# Altium footprint library ETech PCB Rev 1.0.PcbLib: 102 footprints (part 6 of 7)
Each footprint in its own frame and in the unit in brackets; x right, y up, seen from the top. Pads: shape width x height; smd on the part's side, far side on the other; paste and mask are expansions set on the pad; w line width, h text height; cw(c..) or ccw(c..) is an arc to the next point about the centre after c.
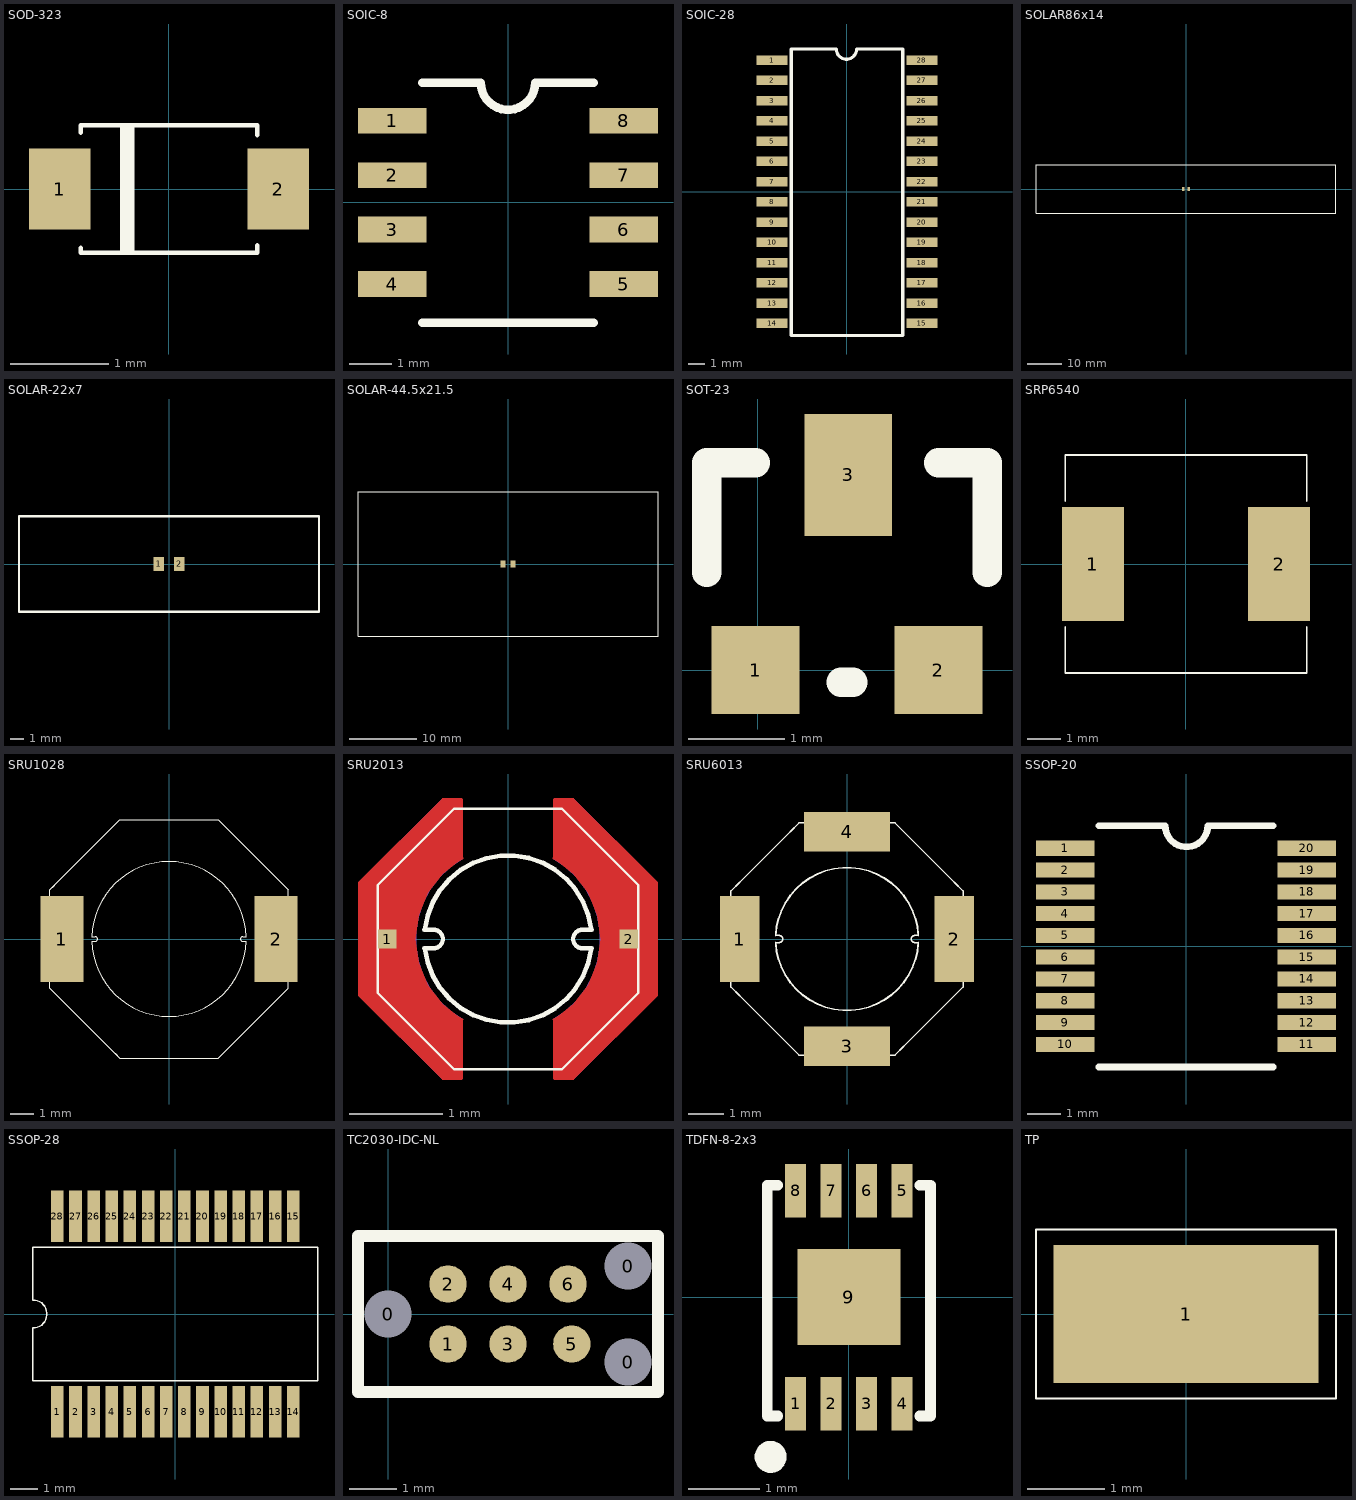
[diagram p5: the footprints below, top view; thin cyan lines are the x and y axes]

## SOD-323 [mm]
height 2.1
pads (2):
  rect 0.63x0.83 smd: 1(-1.115,0) 2(1.115,0)
Top Overlay:
  rectangle: -0.5,-0.65 -0.35,0.65
  lines w0.05: -0.9,-0.6 -0.9,-0.65 0.625,-0.65 0.9,-0.65 0.9,-0.575 ; -0.9,0.575 -0.9,0.65 0.025,0.65 0.9,0.65 0.9,0.55

## SOIC-8 [mm]
height 1.1
pads (8):
  rect 1.6x0.6 smd: 1(-2.7,1.905) 2(-2.7,0.635) 3(-2.7,-0.635) 4(-2.7,-1.905) 5(2.7,-1.905) 6(2.7,-0.635) 7(2.7,0.635) 8(2.7,1.905)
Top Overlay:
  lines w0.2: -2,-2.805 2,-2.805 ; -2,2.795 -0.635,2.795 ccw(c0,2.795) 0.635,2.795 2,2.795

## SOIC-28 [mm]
height 1.1
pads (28):
  rect 1.95x0.6 smd: 1(-4.7,8.255) 2(-4.7,6.985) 3(-4.7,5.715) 4(-4.7,4.445) 5(-4.7,3.175) 6(-4.7,1.905) 7(-4.7,0.635) 8(-4.7,-0.635) 9(-4.7,-1.905) 10(-4.7,-3.175) 11(-4.7,-4.445) 12(-4.7,-5.715) 13(-4.7,-6.985) 14(-4.7,-8.255) 15(4.7,-8.255) 16(4.7,-6.985) 17(4.7,-5.715) 18(4.7,-4.445) 19(4.7,-3.175) 20(4.7,-1.905) 21(4.7,-0.635) 22(4.7,0.635) 23(4.7,1.905) 24(4.7,3.175) 25(4.7,4.445) 26(4.7,5.715) 27(4.7,6.985) 28(4.7,8.255)
Top Overlay:
  lines w0.2: -3.5,-9.02 -3.5,8.94 -0.67,8.94 ccw(c-0.035,8.94) 0.6,8.94 3.5,8.94 3.5,-9.02 -3.5,-9.02

## SOLAR86x14 [mil]
height 751.97
pads (2):
  rect 30x40 smd: 1(-30,0) 2(30,0)
Top Overlay:
  lines w6: -1692.91,-275.59 -1692.91,275.59 1692.91,275.59 1692.91,-275.59 -1692.91,-275.59

## SOLAR-22x7 [mil]
height 751.97
pads (2):
  rect 30x40 smd: 1(-30,0) 2(30,0)
Top Overlay:
  lines w6: -433.07,-137.8 433.07,-137.8 433.07,137.8 -433.07,137.8 -433.07,-137.8

## SOLAR-44.5x21.5 [mil]
height 751.97
pads (2):
  rect 30x40 smd: 1(-30,0) 2(30,0)
Top Overlay:
  lines w6: -875.98,-421.26 875.98,-421.26 875.98,421.26 -875.98,421.26 -875.98,-421.26

## SOT-23 [mil]
height 751.97
pads (3):
  rect 36x36 smd: 1(-1,0) 2(74,0)
  rect 36x50 smd: 3(37,80)
Top Overlay:
  lines w12: -21,40 -21,85 -1,85 ; 34,-5 39,-5 ; 74,85 94,85 94,40

## SRP6540 [mm]
height 19.1
pads (2):
  rect 1.85x3.4 smd: 1(-2.775,0) 2(2.775,0)
Top Overlay:
  lines w0.05: -3.6,-1.875 -3.6,-3.25 3.6,-3.25 3.6,-1.875 ; -3.6,1.875 -3.6,3.25 3.6,3.25 3.6,1.875

## SRU1028 [mm]
height 19.1
pads (2):
  rect 1.8x3.6 smd: 1(-4.5,0) 2(4.5,0)
Top Overlay:
  lines w0.045: -5,-1.93 -5,-2.071 ; -4.808,2.263 -5,2.071 ; -3.248,-0.1 -3.1,-0.1 ccw(c-3.1,0) -3.1,0.1 -3.248,0.1 ; -2.263,-4.808 -2.071,-5 ; -1.93,5 -2.071,5 ; 2.192,4.879 2.071,5 ; 2.333,-4.738 2.071,-5 ; 3.248,-0.1 3.1,-0.1 cw(c3.1,0) 3.1,0.1 3.248,0.1 ; 4.738,-2.333 5,-2.071 ; 5,1.788 5,2.071 ; -5,-2.071 -2.071,-5 ; -5,-2.071 -5,2.071 ; -5,2.071 -2.071,5 ; -2.071,-5 2.071,-5 ; -2.071,5 2.071,5 ; 2.071,-5 5,-2.071 ; 2.071,5 5,2.071 ; 5,-2.071 5,2.071
  lines w0.05: -3.248,-0.102 ccw(c0,0) 3.248,-0.102 ; -3.248,0.102 cw(c0,0) 3.248,0.102

## SRU2013 [mm]
height 19.1
pads (2):
  rect 0.2x0.2 smd: 1(-1.3,0) 2(1.3,0)
Top Layer:
  region: 1.609,-0.609 1.611,-0.607 1.613,-0.603 1.613,-0.6 1.613,0.6 1.613,0.605 1.609,0.609 0.709,1.509 0.707,1.511 0.703,1.513 0.7,1.513 0.5,1.513 0.497,1.513 0.49,1.51 0.487,1.503 0.487,1.5 0.487,0.877 0.484,0.873 0.484,0.868 0.484,0.865 0.487,0.859 0.49,0.857 0.547,0.824 0.704,0.704 0.862,0.498 0.962,0.258 0.996,0 0.962,-0.258 0.862,-0.498 0.704,-0.704 0.547,-0.824 0.49,-0.857 0.487,-0.859 0.484,-0.865 0.484,-0.868 0.484,-0.871 0.485,-0.875 0.487,-0.877 0.487,-1.5 0.487,-1.503 0.49,-1.51 0.497,-1.513 0.5,-1.513 0.7,-1.513 0.703,-1.513 0.707,-1.511 0.709,-1.509
  region: -1.609,-0.609 -1.611,-0.607 -1.613,-0.603 -1.613,-0.6 -1.613,0.6 -1.613,0.605 -1.609,0.609 -0.709,1.509 -0.707,1.511 -0.703,1.513 -0.7,1.513 -0.5,1.513 -0.497,1.513 -0.49,1.51 -0.487,1.503 -0.487,1.5 -0.487,0.877 -0.484,0.873 -0.484,0.868 -0.484,0.865 -0.487,0.859 -0.49,0.857 -0.547,0.824 -0.704,0.704 -0.862,0.498 -0.962,0.258 -0.996,0 -0.962,-0.258 -0.862,-0.498 -0.704,-0.704 -0.547,-0.824 -0.49,-0.857 -0.487,-0.859 -0.484,-0.865 -0.484,-0.868 -0.484,-0.871 -0.485,-0.875 -0.487,-0.877 -0.487,-1.5 -0.487,-1.503 -0.49,-1.51 -0.497,-1.513 -0.5,-1.513 -0.7,-1.513 -0.703,-1.513 -0.707,-1.511 -0.709,-1.509
Top Overlay:
  lines w0.025: -0.566,1.4 0.58,1.4 1.4,0.58 1.4,-0.58 0.58,-1.4 0.566,-1.4 -0.58,-1.4 -1.4,-0.58 -1.4,0.58 -0.58,1.4 -0.3,1.4
  lines w0.045: -0.9,-0.1 -0.8,-0.1 ccw(c-0.8,0) -0.8,0.1 -0.9,0.1 ; 0.9,-0.1 0.8,-0.1 cw(c0.8,0) 0.8,0.1 0.9,0.1
  lines w0.05: -0.894,-0.099 ccw(c0,0) 0.894,-0.105 ; -0.894,0.099 cw(c0,0) 0.894,0.105
Mechanical 1:
  lines w0.025: -1.6,0.5 -1.6,0.6 ; -0.5,-0.874 -0.5,-1.5 -0.7,-1.5 -1.6,-0.6 -1.6,0.6 ; -0.5,0.874 -0.5,1.5 ; -0.496,-0.868 cw(c0,0) -0.496,0.868 ; 0.496,-0.868 ccw(c0,0) 0.496,0.868 ; 0.5,-0.874 0.5,-1.5 0.7,-1.5 1.6,-0.6 1.6,0.6 ; 0.5,0.874 0.5,1.5 ; 1.6,0.5 1.6,0.6 ; -1.6,0.6 -0.7,1.5 ; -0.7,1.5 -0.5,1.5 ; -0.7,1.5 -0.5,1.5 ; 0.5,1.5 0.7,1.5 ; 0.5,1.5 0.7,1.5 ; 0.7,1.5 1.6,0.6

## SRU6013 [mm]
height 19.1
pads (4):
  rect 1.1x2.4 smd: 1(-3,0) 2(3,0)
  rect 2.4x1.1 smd: 3(0,-3) 4(0,3)
Top Overlay:
  lines w0.045: -3.005,-1.591 -3.25,-1.346 ; -3.005,1.591 -3.25,1.346 ; -2,-0.1 -1.9,-0.1 ccw(c-1.9,0) -1.9,0.1 -2,0.1 ; -1.591,3.005 -1.346,3.25 ; -1.212,-3.25 1.346,-3.25 ; -1.077,-3.25 -1.346,-3.25 -3.25,-1.346 ; 0.993,3.25 1.346,3.25 ; 1.591,-3.005 1.346,-3.25 ; 2,-0.1 1.9,-0.1 cw(c1.9,0) 1.9,0.1 2,0.1 ; 3.005,1.591 3.25,1.346 ; 3.25,-0.993 3.25,-1.346 ; -3.25,-1.346 -3.25,1.346 ; -3.25,1.346 -1.346,3.25 ; -1.346,3.25 1.346,3.25 ; 1.346,-3.25 3.25,-1.346 ; 1.346,3.25 3.25,1.346 ; 3.25,-1.346 3.25,1.346
  lines w0.05: -1.998,-0.1 ccw(c0,0) 1.998,-0.1 ; -1.998,0.1 cw(c0,0) 1.998,0.1

## SSOP-20 [mm]
height 1.1
pads (20):
  rect 1.75x0.45 smd: 1(-3.6,2.925) 2(-3.6,2.275) 3(-3.6,1.625) 4(-3.6,0.975) 5(-3.6,0.325) 6(-3.6,-0.325) 7(-3.6,-0.975) 8(-3.6,-1.625) 9(-3.6,-2.275) 10(-3.6,-2.925) 11(3.6,-2.925) 12(3.6,-2.275) 13(3.6,-1.625) 14(3.6,-0.975) 15(3.6,-0.325) 16(3.6,0.325) 17(3.6,0.975) 18(3.6,1.625) 19(3.6,2.275) 20(3.6,2.925)
Top Overlay:
  lines w0.2: -2.6,-3.6 2.6,-3.6 ; -2.6,3.6 -0.62,3.6 ccw(c0.015,3.6) 0.65,3.6 2.6,3.6

## SSOP-28 [mm]
height 2.4
pads (28):
  rect 0.45x1.85 smd mask+0.08: 1(-4.225,-3.5) 2(-3.575,-3.5) 3(-2.925,-3.5) 4(-2.275,-3.5) 5(-1.625,-3.5) 6(-0.975,-3.5) 7(-0.325,-3.5) 8(0.325,-3.5) 9(0.975,-3.5) 10(1.625,-3.5) 11(2.275,-3.5) 12(2.925,-3.5) 13(3.575,-3.5) 14(4.225,-3.5) 15(4.225,3.5) 16(3.575,3.5) 17(2.925,3.5) 18(2.275,3.5) 19(1.625,3.5) 20(0.975,3.5) 21(0.325,3.5) 22(-0.325,3.5) 23(-0.975,3.5) 24(-1.625,3.5) 25(-2.275,3.5) 26(-2.925,3.5) 27(-3.575,3.5) 28(-4.225,3.5)
Top Overlay:
  lines w0.05: -5.1,-2.4 -5.1,-0.5 ccw(c-5.1,0) -5.1,0.5 -5.1,2.4 5.1,2.4 5.1,-2.4 -5.1,-2.4

## TC2030-IDC-NL [mm] "Tag-Connect 6-Pin with No Legs (PN# TC2030-IDC-NL)"
height 2.4
pads (9):
  round 0.9 hole 0.995 unplated: 0(0,0) 0(5.08,-1.016) 0(5.08,1.016)
  round 0.79 smd paste-0.39: 1(1.27,-0.635) 2(1.27,0.635) 3(2.54,-0.635) 4(2.54,0.635) 5(3.89,-0.635) 6(3.81,0.635)
Top Overlay:
  lines w0.254: -0.635,-1.651 5.715,-1.651 5.715,1.651 -0.635,1.651 -0.635,-1.651

## TDFN-8-2x3 [mm]
height 2.4
pads (9):
  rect 0.3x0.75 smd mask+0.075: 1(-0.75,-1.5) 2(-0.25,-1.5) 3(0.25,-1.5) 4(0.75,-1.5) 5(0.75,1.5) 6(0.25,1.5) 7(-0.25,1.5) 8(-0.75,1.5)
  rect 1.45x1.35 smd mask+0.075: 9(0,0)
Top Overlay:
  circle w0.25: c-1.1,-2.25 r0.1
  lines w0.15: -1,-1.675 -1.15,-1.675 -1.15,1.575 -1,1.575 ; 1,-1.675 1.15,-1.675 1.15,1.575 1,1.575

## TP [mm]
height 19.1
pads (1):
  rect 3.45x1.8 smd: 1(0,0)
Top Overlay:
  lines w0.025: -1.95,-1.1 -1.95,1.1 1.95,1.1 1.95,-1.1 -1.95,-1.1